# Altium footprint library WB_CONNECTOR.PcbLib: 32 footprints (part 2 of 3)
Each footprint in its own frame and in the unit in brackets; x right, y up, seen from the top. Pads: shape width x height; smd on the part's side, far side on the other; paste and mask are expansions set on the pad; w line width, h text height; cw(c..) or ccw(c..) is an arc to the next point about the centre after c.
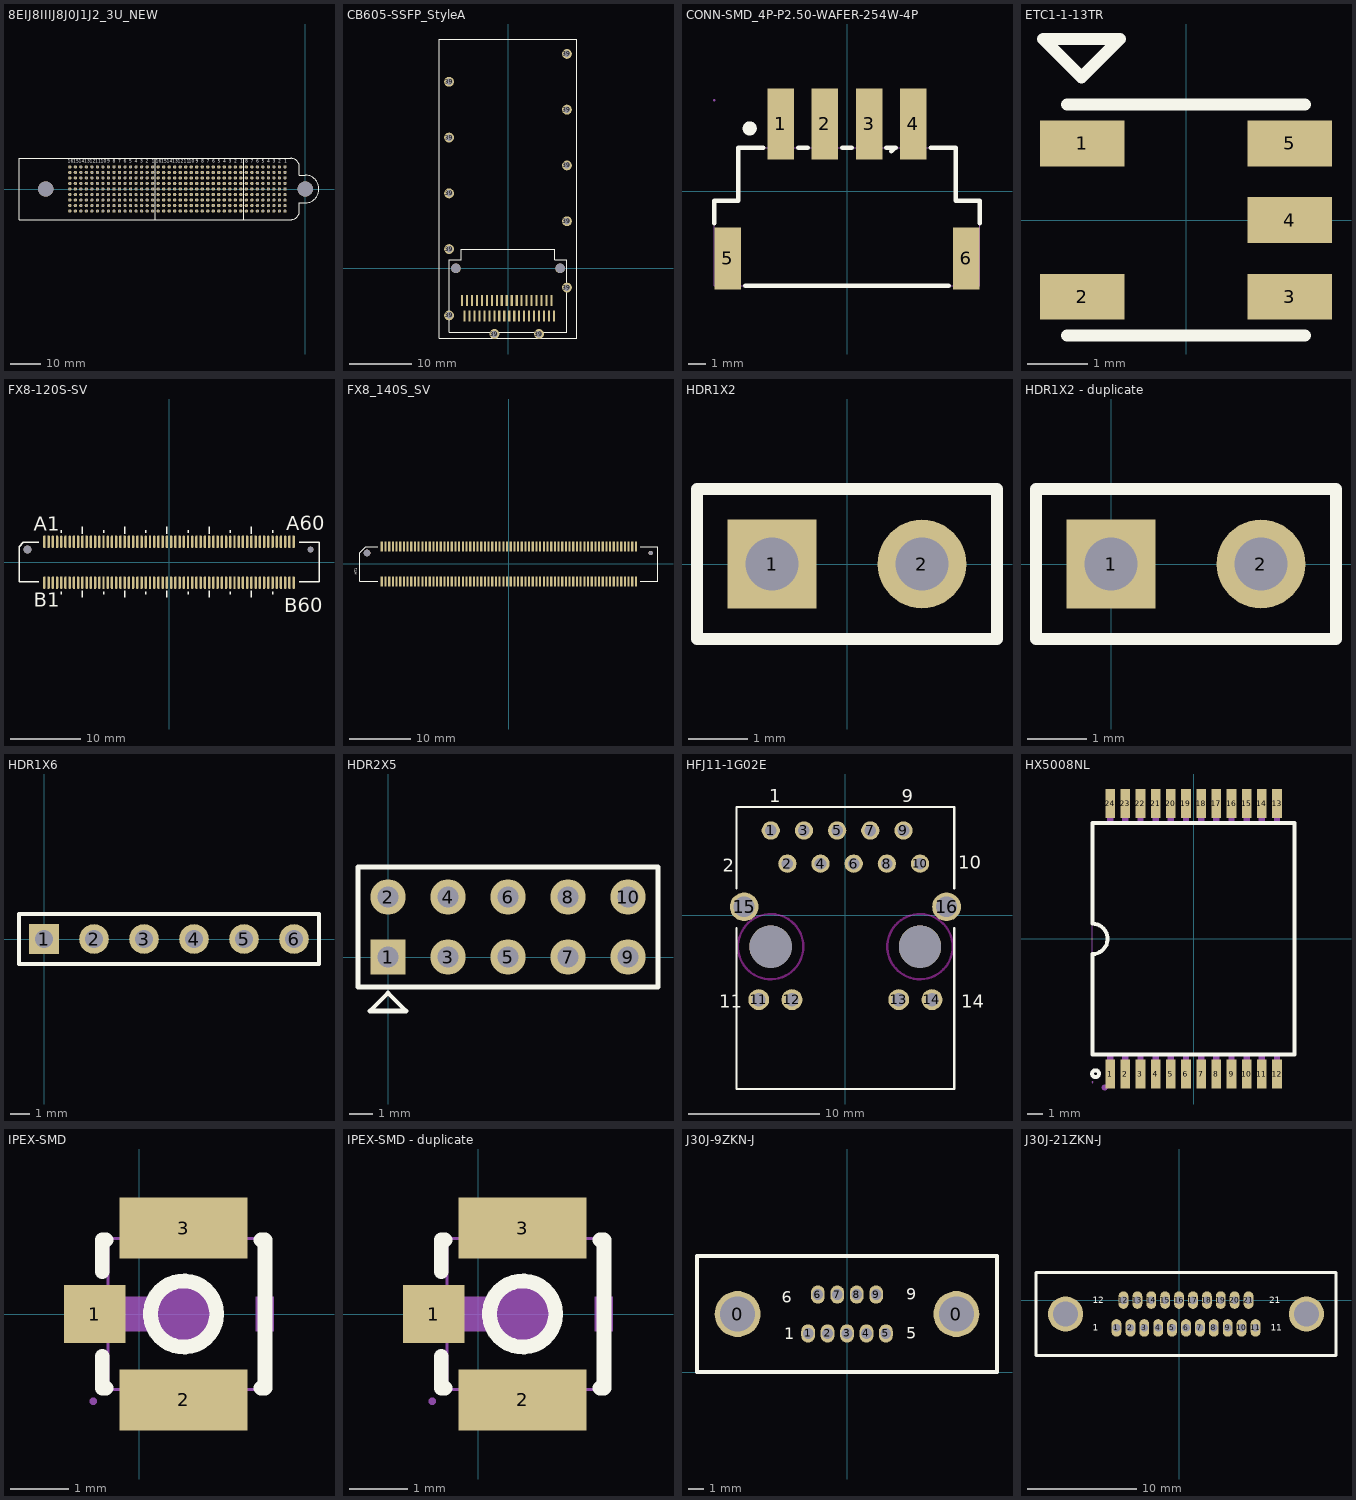
[diagram p1: the footprints below, top view; thin cyan lines are the x and y axes]

## 8EIJ8IIIJ8J0J1J2_3U_NEW [mm]
pads (362):
  round 1.1 hole 0.56: P0_A1(-6.6,7.2) P0_A2(-8.4,7.2) P0_A3(-10.2,7.2) P0_A4(-12,7.2) P0_A5(-13.8,7.2) P0_A6(-15.6,7.2) P0_A7(-17.4,7.2) P0_A8(-19.2,7.2) P0_B1(-6.6,5.4) P0_B2(-8.4,5.4) P0_B3(-10.2,5.4) P0_B4(-12,5.4) P0_B5(-13.8,5.4) P0_B6(-15.6,5.4) P0_B7(-17.4,5.4) P0_B8(-19.2,5.4) P0_C1(-6.6,3.6) P0_C2(-8.4,3.6) P0_C3(-10.2,3.6) P0_C4(-12,3.6) P0_C5(-13.8,3.6) P0_C6(-15.6,3.6) P0_C7(-17.4,3.6) P0_C8(-19.2,3.6) P0_D1(-6.6,1.8) P0_D2(-8.4,1.8) P0_D3(-10.2,1.8) P0_D4(-12,1.8) P0_D5(-13.8,1.8) P0_D6(-15.6,1.8) P0_D7(-17.4,1.8) P0_D8(-19.2,1.8) P0_E1(-6.6,0) P0_E2(-8.4,0) P0_E3(-10.2,0) P0_E4(-12,0) P0_E5(-13.8,0) P0_E6(-15.6,0) P0_E7(-17.4,0) P0_E8(-19.2,0) P0_F1(-6.6,-1.8) P0_F2(-8.4,-1.8) P0_F3(-10.2,-1.8) P0_F4(-12,-1.8) P0_F5(-13.8,-1.8) P0_F6(-15.6,-1.8) P0_F7(-17.4,-1.8) P0_F8(-19.2,-1.8) P0_G1(-6.6,-3.6) P0_G2(-8.4,-3.6) P0_G3(-10.2,-3.6) P0_G4(-12,-3.6) P0_G5(-13.8,-3.6) P0_G6(-15.6,-3.6) P0_G7(-17.4,-3.6) P0_G8(-19.2,-3.6) P0_H1(-6.6,-5.4) P0_H2(-8.4,-5.4) P0_H3(-10.2,-5.4) P0_H4(-12,-5.4) P0_H5(-13.8,-5.4) P0_H6(-15.6,-5.4) P0_H7(-17.4,-5.4) P0_H8(-19.2,-5.4) P0_I1(-6.6,-7.2) P0_I2(-8.4,-7.2) P0_I3(-10.2,-7.2) P0_I4(-12,-7.2) P0_I5(-13.8,-7.2) P0_I6(-15.6,-7.2) P0_I7(-17.4,-7.2) P0_I8(-19.2,-7.2) P1_A1(-21,7.2) P1_A2(-22.8,7.2) P1_A3(-24.6,7.2) P1_A4(-26.4,7.2) P1_A5(-28.2,7.2) P1_A6(-30,7.2) P1_A7(-31.8,7.2) P1_A8(-33.6,7.2) P1_A9(-35.4,7.2) P1_A10(-37.2,7.2) P1_A11(-39,7.2) P1_A12(-40.8,7.2) P1_A13(-42.6,7.2) P1_A14(-44.4,7.2) P1_A15(-46.2,7.2) P1_A16(-48,7.2) P1_B1(-21,5.4) P1_B2(-22.8,5.4) P1_B3(-24.6,5.4) P1_B4(-26.4,5.4) P1_B5(-28.2,5.4) P1_B6(-30,5.4) P1_B7(-31.8,5.4) P1_B8(-33.6,5.4) P1_B9(-35.4,5.4) P1_B10(-37.2,5.4) P1_B11(-39,5.4) P1_B12(-40.8,5.4) P1_B13(-42.6,5.4) P1_B14(-44.4,5.4) P1_B15(-46.2,5.4) P1_B16(-48,5.4) P1_C1(-21,3.6) P1_C2(-22.8,3.6) P1_C3(-24.6,3.6) P1_C4(-26.4,3.6) P1_C5(-28.2,3.6) P1_C6(-30,3.6) P1_C7(-31.8,3.6) P1_C8(-33.6,3.6) P1_C9(-35.4,3.6) P1_C10(-37.2,3.6) P1_C11(-39,3.6) P1_C12(-40.8,3.6) P1_C13(-42.6,3.6) P1_C14(-44.4,3.6) P1_C15(-46.2,3.6) P1_C16(-48,3.6) P1_D1(-21,1.8) P1_D2(-22.8,1.8) P1_D3(-24.6,1.8) P1_D4(-26.4,1.8) P1_D5(-28.2,1.8) P1_D6(-30,1.8) P1_D7(-31.8,1.8) P1_D8(-33.6,1.8) P1_D9(-35.4,1.8) P1_D10(-37.2,1.8) P1_D11(-39,1.8) P1_D12(-40.8,1.8) P1_D13(-42.6,1.8) P1_D14(-44.4,1.8) P1_D15(-46.2,1.8) P1_D16(-48,1.8) P1_E1(-21,0) P1_E2(-22.8,0) P1_E3(-24.6,0) P1_E4(-26.4,0) P1_E5(-28.2,0) P1_E6(-30,0) P1_E7(-31.8,0) P1_E8(-33.6,0) P1_E9(-35.4,0) P1_E10(-37.2,0) P1_E11(-39,0) P1_E12(-40.8,0) P1_E13(-42.6,0) P1_E14(-44.4,0) P1_E15(-46.2,0) P1_E16(-48,0) P1_F1(-21,-1.8) P1_F2(-22.8,-1.8) P1_F3(-24.6,-1.8) P1_F4(-26.4,-1.8) P1_F5(-28.2,-1.8) P1_F6(-30,-1.8) P1_F7(-31.8,-1.8) P1_F8(-33.6,-1.8) P1_F9(-35.4,-1.8) P1_F10(-37.2,-1.8) P1_F11(-39,-1.8) P1_F12(-40.8,-1.8) P1_F13(-42.6,-1.8) P1_F14(-44.4,-1.8) P1_F15(-46.2,-1.8) P1_F16(-48,-1.8) P1_G1(-21,-3.6) P1_G2(-22.8,-3.6) P1_G3(-24.6,-3.6) P1_G4(-26.4,-3.6) P1_G5(-28.2,-3.6) P1_G6(-30,-3.6) P1_G7(-31.8,-3.6) P1_G8(-33.6,-3.6) P1_G9(-35.4,-3.6) P1_G10(-37.2,-3.6) P1_G11(-39,-3.6) P1_G12(-40.8,-3.6) P1_G13(-42.6,-3.6) P1_G14(-44.4,-3.6) P1_G15(-46.2,-3.6) P1_G16(-48,-3.6) P1_H1(-21,-5.4) P1_H2(-22.8,-5.4) P1_H3(-24.6,-5.4) P1_H4(-26.4,-5.4) P1_H5(-28.2,-5.4) P1_H6(-30,-5.4) P1_H7(-31.8,-5.4) P1_H8(-33.6,-5.4) P1_H9(-35.4,-5.4) P1_H10(-37.2,-5.4) P1_H11(-39,-5.4) P1_H12(-40.8,-5.4) P1_H13(-42.6,-5.4) P1_H14(-44.4,-5.4) P1_H15(-46.2,-5.4) P1_H16(-48,-5.4) P1_I1(-21,-7.2) P1_I2(-22.8,-7.2) P1_I3(-24.6,-7.2) P1_I4(-26.4,-7.2) P1_I5(-28.2,-7.2) P1_I6(-30,-7.2) P1_I7(-31.8,-7.2) P1_I8(-33.6,-7.2) P1_I9(-35.4,-7.2) P1_I10(-37.2,-7.2) P1_I11(-39,-7.2) P1_I12(-40.8,-7.2) P1_I13(-42.6,-7.2) P1_I14(-44.4,-7.2) P1_I15(-46.2,-7.2) P1_I16(-48,-7.2) P2_A1(-49.8,7.2) P2_A2(-51.6,7.2) P2_A3(-53.4,7.2) P2_A4(-55.2,7.2) P2_A5(-57,7.2) P2_A6(-58.8,7.2) P2_A7(-60.6,7.2) P2_A8(-62.4,7.2) P2_A9(-64.2,7.2) P2_A10(-66,7.2) P2_A11(-67.8,7.2) P2_A12(-69.6,7.2) P2_A13(-71.4,7.2) P2_A14(-73.2,7.2) P2_A15(-75,7.2) P2_A16(-76.8,7.2) P2_B1(-49.8,5.4) P2_B2(-51.6,5.4) P2_B3(-53.4,5.4) P2_B4(-55.2,5.4) P2_B5(-57,5.4) P2_B6(-58.8,5.4) P2_B7(-60.6,5.4) P2_B8(-62.4,5.4) P2_B9(-64.2,5.4) P2_B10(-66,5.4) P2_B11(-67.8,5.4) P2_B12(-69.6,5.4) P2_B13(-71.4,5.4) P2_B14(-73.2,5.4) P2_B15(-75,5.4) P2_B16(-76.8,5.4) P2_C1(-49.8,3.6) P2_C2(-51.6,3.6) P2_C3(-53.4,3.6) P2_C4(-55.2,3.6) P2_C5(-57,3.6) P2_C6(-58.8,3.6) P2_C7(-60.6,3.6) P2_C8(-62.4,3.6) P2_C9(-64.2,3.6) P2_C10(-66,3.6) P2_C11(-67.8,3.6) P2_C12(-69.6,3.6) P2_C13(-71.4,3.6) P2_C14(-73.2,3.6) P2_C15(-75,3.6) P2_C16(-76.8,3.6) P2_D1(-49.8,1.8) P2_D2(-51.6,1.8) P2_D3(-53.4,1.8) P2_D4(-55.2,1.8) P2_D5(-57,1.8) P2_D6(-58.8,1.8) P2_D7(-60.6,1.8) P2_D8(-62.4,1.8) P2_D9(-64.2,1.8) P2_D10(-66,1.8) P2_D11(-67.8,1.8) P2_D12(-69.6,1.8) P2_D13(-71.4,1.8) P2_D14(-73.2,1.8) P2_D15(-75,1.8) P2_D16(-76.8,1.8) P2_E1(-49.8,0) P2_E2(-51.6,0) P2_E3(-53.4,0) P2_E4(-55.2,0) P2_E5(-57,0) P2_E6(-58.8,0) P2_E7(-60.6,0) P2_E8(-62.4,0) P2_E9(-64.2,0) P2_E10(-66,0) P2_E11(-67.8,0) P2_E12(-69.6,0) P2_E13(-71.4,0) P2_E14(-73.2,0) P2_E15(-75,0) P2_E16(-76.8,0) P2_F1(-49.8,-1.8) P2_F2(-51.6,-1.8) P2_F3(-53.4,-1.8) P2_F4(-55.2,-1.8) P2_F5(-57,-1.8) P2_F6(-58.8,-1.8) P2_F7(-60.6,-1.8) P2_F8(-62.4,-1.8) P2_F9(-64.2,-1.8) P2_F10(-66,-1.8) P2_F11(-67.8,-1.8) P2_F12(-69.6,-1.8) P2_F13(-71.4,-1.8) P2_F14(-73.2,-1.8) P2_F15(-75,-1.8) P2_F16(-76.8,-1.8) P2_G1(-49.8,-3.6) P2_G2(-51.6,-3.6) P2_G3(-53.4,-3.6) P2_G4(-55.2,-3.6) P2_G5(-57,-3.6) P2_G6(-58.8,-3.6) P2_G7(-60.6,-3.6) P2_G8(-62.4,-3.6) P2_G9(-64.2,-3.6) P2_G10(-66,-3.6) P2_G11(-67.8,-3.6) P2_G12(-69.6,-3.6) P2_G13(-71.4,-3.6) P2_G14(-73.2,-3.6) P2_G15(-75,-3.6) P2_G16(-76.8,-3.6) P2_H1(-49.8,-5.4) P2_H2(-51.6,-5.4) P2_H3(-53.4,-5.4) P2_H4(-55.2,-5.4) P2_H5(-57,-5.4) P2_H6(-58.8,-5.4) P2_H7(-60.6,-5.4) P2_H8(-62.4,-5.4) P2_H9(-64.2,-5.4) P2_H10(-66,-5.4) P2_H11(-67.8,-5.4) P2_H12(-69.6,-5.4) P2_H13(-71.4,-5.4) P2_H14(-73.2,-5.4) P2_H15(-75,-5.4) P2_H16(-76.8,-5.4) P2_I1(-49.8,-7.2) P2_I2(-51.6,-7.2) P2_I3(-53.4,-7.2) P2_I4(-55.2,-7.2) P2_I5(-57,-7.2) P2_I6(-58.8,-7.2) P2_I7(-60.6,-7.2) P2_I8(-62.4,-7.2) P2_I9(-64.2,-7.2) P2_I10(-66,-7.2) P2_I11(-67.8,-7.2) P2_I12(-69.6,-7.2) P2_I13(-71.4,-7.2) P2_I14(-73.2,-7.2) P2_I15(-75,-7.2) P2_I16(-76.8,-7.2)
  round 5 hole 5: ""(-84.7,0) ""(0,0)
Top Overlay:
  lines w0.127: -48.895,-10 -48.895,10 ; -20.066,-10 -20.066,10 ; -93.4,-10 -4.7,-10 ccw(c-4.7,-7.2) -1.9,-7.2 -1.9,-4.5 0,-4.5 ccw(c0,0) 0,4.5 -1.9,4.5 -1.9,7.2 ccw(c-4.7,7.2) -4.7,10 -93.4,10 -93.4,9.982 -93.4,0 -93.4,-9.982 -93.4,-10
  text "1" at -50.01,8 h1.78
  text "2" at -51.979,8 h1.78
  text "3" at -53.772,8 h1.78
  text "4" at -55.595,8 h1.78
  text "5" at -57.377,8 h1.78
  text "6" at -59.176,8 h1.78
  text "7" at -60.969,8 h1.78
  text "8" at -62.776,8 h1.78
  text "9" at -64.575,8 h1.78
  text "10" at -66.76,8 h1.78
  text "11" at -68.452,8 h1.78
  text "12" at -70.356,8 h1.78
  text "13" at -72.162,8 h1.78
  text "14" at -73.96,8 h1.78
  text "15" at -75.766,8 h1.78
  text "16" at -77.562,8 h1.78
  text "16" at -48.762,8 h1.78
  text "15" at -46.966,8 h1.78
  text "14" at -45.16,8 h1.78
  text "13" at -43.362,8 h1.78
  text "12" at -41.556,8 h1.78
  text "11" at -39.652,8 h1.78
  text "10" at -37.96,8 h1.78
  text "9" at -35.775,8 h1.78
  text "8" at -33.976,8 h1.78
  text "7" at -32.169,8 h1.78
  text "6" at -30.376,8 h1.78
  text "5" at -28.577,8 h1.78
  text "4" at -26.795,8 h1.78
  text "3" at -24.972,8 h1.78
  text "2" at -23.179,8 h1.78
  text "1" at -21.21,8 h1.78
  text "8" at -19.576,8 h1.78
  text "7" at -17.769,8 h1.78
  text "6" at -15.976,8 h1.78
  text "5" at -14.177,8 h1.78
  text "4" at -12.395,8 h1.78
  text "3" at -10.572,8 h1.78
  text "2" at -8.779,8 h1.78
  text "1" at -6.81,8 h1.78
Bottom Overlay:
  lines w0.127: -93.4,9.982 -93.4,0 -93.4,-9.982 -93.4,-10 -4.7,-10 ccw(c-4.7,-7.2) -1.9,-7.2 -1.9,-4.5 0,-4.5 ccw(c0,0) 0,4.5 -1.9,4.5 -1.9,7.2 ccw(c-4.7,7.2) -4.7,10 -93.4,10 ; -48.895,-10 -48.895,10 ; -20.066,-10 -20.066,10
  text "15" at -45.434,8.001 h1.78
  text "16" at -47.238,8.001 h1.78
  text "14" at -43.64,8.001 h1.78
  text "13" at -41.838,8.001 h1.78
  text "12" at -40.044,8.001 h1.78
  text "11" at -38.348,8.001 h1.78
  text "10" at -36.44,8.001 h1.78
  text "3" at -24.228,8.001 h1.78
  text "4" at -26.005,8.001 h1.78
  text "5" at -27.823,8.001 h1.78
  text "6" at -29.624,8.001 h1.78
  text "7" at -31.431,8.001 h1.78
  text "9" at -35.025,8.001 h1.78
  text "8" at -33.224,8.001 h1.78
  text "1" at -20.79,8.001 h1.78
  text "2" at -22.421,8.001 h1.78
  text "2" at -8.021,8.001 h1.78
  text "1" at -6.39,8.001 h1.78
  text "8" at -18.824,8.001 h1.78
  text "7" at -17.031,8.001 h1.78
  text "6" at -15.224,8.001 h1.78
  text "5" at -13.423,8.001 h1.78
  text "4" at -11.605,8.001 h1.78
  text "3" at -9.828,8.001 h1.78
  text "2" at -51.221,8.001 h1.78
  text "1" at -49.59,8.001 h1.78
  text "8" at -62.024,8.001 h1.78
  text "9" at -63.825,8.001 h1.78
  text "7" at -60.231,8.001 h1.78
  text "6" at -58.424,8.001 h1.78
  text "5" at -56.623,8.001 h1.78
  text "4" at -54.805,8.001 h1.78
  text "3" at -53.028,8.001 h1.78
  text "10" at -65.24,8.001 h1.78
  text "11" at -67.148,8.001 h1.78
  text "12" at -68.844,8.001 h1.78
  text "13" at -70.638,8.001 h1.78
  text "14" at -72.44,8.001 h1.78
  text "16" at -76.038,8.001 h1.78
  text "15" at -74.234,8.001 h1.78

## CB605-SSFP_StyleA [mm]
pads (52):
  rect 0.35x1.8 smd: 1(7,-5.18) 2(6.2,-5.18) 3(5.4,-5.18) 4(4.6,-5.18) 5(3.8,-5.18) 6(3,-5.18) 7(2.2,-5.18) 8(1.4,-5.18) 9(0.6,-5.18) 10(-0.2,-5.18) 11(-1,-5.18) 12(-1.8,-5.18) 13(-2.6,-5.18) 14(-3.4,-5.18) 15(-4.2,-5.18) 16(-5,-5.18) 17(-5.8,-5.18) 18(-6.6,-5.18) 19(-7.4,-5.18) 20(-7,-7.69) 21(-6.2,-7.69) 22(-5.4,-7.69) 23(-4.6,-7.69) 24(-3.8,-7.69) 25(-3,-7.69) 26(-2.2,-7.69) 27(-1.4,-7.69) 28(-0.6,-7.69) 29(0.2,-7.69) 30(1,-7.69) 31(1.8,-7.69) 32(2.6,-7.69) 33(3.4,-7.69) 34(4.2,-7.69) 35(5,-7.69) 36(5.8,-7.69) 37(6.6,-7.69) 38(7.4,-7.69)
  round 1.6 hole 1.05: 39(-9.5,-7.6) 39(-9.5,3.1) 39(-9.5,12.1) 39(-9.5,21.1) 39(-9.5,30.1) 39(-2.2,-10.6) 39(5,-10.6) 39(9.5,-3.1) 39(9.5,7.6) 39(9.5,16.6) 39(9.5,25.6) 39(9.5,34.6)
  round 1.55 hole 1.55: ""(-8.4,0) ""(8.4,0)
Top Overlay:
  lines w0.1: -11.075,-11.3 -11.075,37 11.075,37 11.075,-11.3 -11.075,-11.3 ; -9.5,-10.3 -9.5,1.36 -7.51,1.36 -7.51,3.05 7.51,3.05 7.51,1.36 9.5,1.36 9.5,-10.3 -9.5,-10.3

## CONN-SMD_4P-P2.50-WAFER-254W-4P [mm]
pads (6):
  rect 1.5x4 smd paste+0 mask+0.05: 1(-3.75,3.8) 2(-1.25,3.8) 3(1.25,3.8) 4(3.75,3.8)
  rect 1.5x3.5 smd paste+0 mask+0.05: 5(-6.73,-3.8) 6(6.73,-3.8)
Top Overlay:
  circle w0.4: c-5.5,3.55 r0.2
  lines w0.254: -7.5,-1.82 -7.5,-0.55 -7.35,-0.55 -6.15,-0.55 -6.15,2.45 -4.731,2.45 ; -5.749,-5.35 5.749,-5.35 ; -2.769,2.45 -2.231,2.45 ; -0.269,2.45 0.269,2.45 ; 2.231,2.45 2.769,2.45 2.7,2.45 2.5,2.25 ; 4.731,2.45 6.15,2.45 6.15,2.3 6.15,-0.55 7.5,-0.55 7.5,-1.82
Mechanical 6:
  circle w0.4: c-3.7,3.2 r0.2
Mechanical 15:
  region: -6.8,-2.45 -6.5,-2.45 -6.5,-5.15 -6.8,-5.15
  region: 6.5,-2.45 6.8,-2.45 6.8,-5.15 6.5,-5.15
  region: 3.43,5.15 4.07,5.15 4.07,2.15 3.43,2.15
  region: 0.93,5.15 1.57,5.15 1.57,2.15 0.93,2.15
  region: -1.57,5.15 -0.93,5.15 -0.93,2.15 -1.57,2.15
  region: -4.07,5.15 -3.43,5.15 -3.43,2.15 -4.07,2.15
  region: -7.44,5.15 -7.44,5.125 -7.475,5.09 -7.525,5.09 -7.56,5.125 -7.56,5.15 -7.56,5.175 -7.525,5.21 -7.475,5.21 -7.44,5.175 -7.44,5.15
  lines w0.051: -7.5,-5.35 -7.5,-0.55 -6.15,-0.55 -6.15,2.45 6.15,2.45 6.15,-0.55 7.5,-0.55 7.5,-5.35 3.05,-5.35 -7.5,-5.35

## ETC1-1-13TR [mm]
pads (5):
  rect 1.4x0.76 smd: 1(-1.715,1.27) 2(-1.715,-1.27) 3(1.715,-1.27) 4(1.715,0) 5(1.715,1.27)
Top Overlay:
  lines w0.2: -1.97,-1.915 1.97,-1.915 ; -1.97,1.915 1.97,1.915 ; -2.365,3 -1.095,3 -1.73,2.365 -2.365,3

## FX8-120S-SV [mm]
pads (122):
  oval 0.35x1.8 smd mask+0.102: A1(-17.7,2.9) A2(-17.1,2.9) A3(-16.5,2.9) A4(-15.9,2.9) A5(-15.3,2.9) A6(-14.7,2.9) A7(-14.1,2.9) A8(-13.5,2.9) A9(-12.9,2.9) A10(-12.3,2.9) A11(-11.7,2.9) A12(-11.1,2.9) A13(-10.5,2.9) A14(-9.9,2.9) A15(-9.3,2.9) A16(-8.7,2.9) A17(-8.1,2.9) A18(-7.5,2.9) A19(-6.9,2.9) A20(-6.3,2.9) A21(-5.7,2.9) A22(-5.1,2.9) A23(-4.5,2.9) A24(-3.9,2.9) A25(-3.3,2.9) A26(-2.7,2.9) A27(-2.1,2.9) A28(-1.5,2.9) A29(-0.9,2.9) A30(-0.3,2.9) A31(0.3,2.9) A32(0.9,2.9) A33(1.5,2.9) A34(2.1,2.9) A35(2.7,2.9) A36(3.3,2.9) A37(3.9,2.9) A38(4.5,2.9) A39(5.1,2.9) A40(5.7,2.9) A41(6.3,2.9) A42(6.9,2.9) A43(7.5,2.9) A44(8.1,2.9) A45(8.7,2.9) A46(9.3,2.9) A47(9.9,2.9) A48(10.5,2.9) A49(11.1,2.9) A50(11.7,2.9) A51(12.3,2.9) A52(12.9,2.9) A53(13.5,2.9) A54(14.1,2.9) A55(14.7,2.9) A56(15.3,2.9) A57(15.9,2.9) A58(16.5,2.9) A59(17.1,2.9) A60(17.7,2.9) B1(-17.7,-2.9) B2(-17.1,-2.9) B3(-16.5,-2.9) B4(-15.9,-2.9) B5(-15.3,-2.9) B6(-14.7,-2.9) B7(-14.1,-2.9) B8(-13.5,-2.9) B9(-12.9,-2.9) B10(-12.3,-2.9) B11(-11.7,-2.9) B12(-11.1,-2.9) B13(-10.5,-2.9) B14(-9.9,-2.9) B15(-9.3,-2.9) B16(-8.7,-2.9) B17(-8.1,-2.9) B18(-7.5,-2.9) B19(-6.9,-2.9) B20(-6.3,-2.9) B21(-5.7,-2.9) B22(-5.1,-2.9) B23(-4.5,-2.9) B24(-3.9,-2.9) B25(-3.3,-2.9) B26(-2.7,-2.9) B27(-2.1,-2.9) B28(-1.5,-2.9) B29(-0.9,-2.9) B30(-0.3,-2.9) B31(0.3,-2.9) B32(0.9,-2.9) B33(1.5,-2.9) B34(2.1,-2.9) B35(2.7,-2.9) B36(3.3,-2.9) B37(3.9,-2.9) B38(4.5,-2.9) B39(5.1,-2.9) B40(5.7,-2.9) B41(6.3,-2.9) B42(6.9,-2.9) B43(7.5,-2.9) B44(8.1,-2.9) B45(8.7,-2.9) B46(9.3,-2.9) B47(9.9,-2.9) B48(10.5,-2.9) B49(11.1,-2.9) B50(11.7,-2.9) B51(12.3,-2.9) B52(12.9,-2.9) B53(13.5,-2.9) B54(14.1,-2.9) B55(14.7,-2.9) B56(15.3,-2.9) B57(15.9,-2.9) B58(16.5,-2.9) B59(17.1,-2.9) B60(17.7,-2.9)
  round 1.1 hole 1.1 unplated mask+0.102: ""(-20.1,1.8)
  round 0.8 hole 0.8 unplated mask+0.102: ""(20.1,1.8)
Top Overlay:
  lines w0.178: -18.5,-2.8 -21.3,-2.8 -21.3,2.195 -20.695,2.8 -18.5,2.8 ; -15.291,-4.547 -15.291,-4.166 ; -15.291,4.166 -15.291,4.547 ; -12.319,-5.004 -12.319,-4.064 ; -12.319,4.064 -12.319,5.004 ; -9.291,-4.547 -9.291,-4.166 ; -9.291,4.166 -9.291,4.547 ; -6.319,-5.004 -6.319,-4.064 ; -6.319,4.064 -6.319,5.004 ; -3.291,-4.547 -3.291,-4.166 ; -3.291,4.166 -3.291,4.547 ; -0.319,-5.004 -0.319,-4.064 ; -0.319,4.064 -0.319,5.004 ; 2.709,-4.547 2.709,-4.166 ; 2.709,4.166 2.709,4.547 ; 5.681,-5.004 5.681,-4.064 ; 5.681,4.064 5.681,5.004 ; 8.709,-4.547 8.709,-4.166 ; 8.709,4.166 8.709,4.547 ; 11.681,-5.004 11.681,-4.064 ; 11.681,4.064 11.681,5.004 ; 14.709,-4.547 14.709,-4.166 ; 14.709,4.166 14.709,4.547 ; 18.5,-2.8 21.3,-2.8 21.3,2.8 18.5,2.8
  text "A1" at -19.177,4.445 h2.03
  text "B1" at -19.177,-6.35 h2.03
  text "A60" at 16.637,4.572 h2.03
  text "B60" at 16.383,-7.112 h2.03

## FX8_140S_SV [mm]
pads (142):
  rect 0.35x1.7 smd mask+0.102: A1_1(-20.7,2.85) A1_2(-20.1,2.85) A1_3(-19.5,2.85) A1_4(-18.9,2.85) A1_5(-18.3,2.85) A1_6(-17.7,2.85) A1_7(-17.1,2.85) A1_8(-16.5,2.85) A1_9(-15.9,2.85) A1_10(-15.3,2.85) A1_11(-14.7,2.85) A1_12(-14.1,2.85) A1_13(-13.5,2.85) A1_14(-12.9,2.85) A1_15(-12.3,2.85) A1_16(-11.7,2.85) A1_17(-11.1,2.85) A1_18(-10.5,2.85) A1_19(-9.9,2.85) A1_20(-9.3,2.85) A1_21(-8.7,2.85) A1_22(-8.1,2.85) A1_23(-7.5,2.85) A1_24(-6.9,2.85) A1_25(-6.3,2.85) A1_26(-5.7,2.85) A1_27(-5.1,2.85) A1_28(-4.5,2.85) A1_29(-3.9,2.85) A1_30(-3.3,2.85) A1_31(-2.7,2.85) A1_32(-2.1,2.85) A1_33(-1.5,2.85) A1_34(-0.9,2.85) A1_35(-0.3,2.85) A1_36(0.3,2.85) A1_37(0.9,2.85) A1_38(1.5,2.85) A1_39(2.1,2.85) A1_40(2.7,2.85) A1_41(3.3,2.85) A1_42(3.9,2.85) A1_43(4.5,2.85) A1_44(5.1,2.85) A1_45(5.7,2.85) A1_46(6.3,2.85) A1_47(6.9,2.85) A1_48(7.5,2.85) A1_49(8.1,2.85) A1_50(8.7,2.85) A1_51(9.3,2.85) A1_52(9.9,2.85) A1_53(10.5,2.85) A1_54(11.1,2.85) A1_55(11.7,2.85) A1_56(12.3,2.85) A1_57(12.9,2.85) A1_58(13.5,2.85) A1_59(14.1,2.85) A1_60(14.7,2.85) A1_61(15.3,2.85) A1_62(15.9,2.85) A1_63(16.5,2.85) A1_64(17.1,2.85) A1_65(17.7,2.85) A1_66(18.3,2.85) A1_67(18.9,2.85) A1_68(19.5,2.85) A1_69(20.1,2.85) A1_70(20.7,2.85) B1_1(-20.7,-2.85) B1_2(-20.1,-2.85) B1_3(-19.5,-2.85) B1_4(-18.9,-2.85) B1_5(-18.3,-2.85) B1_6(-17.7,-2.85) B1_7(-17.1,-2.85) B1_8(-16.5,-2.85) B1_9(-15.9,-2.85) B1_10(-15.3,-2.85) B1_11(-14.7,-2.85) B1_12(-14.1,-2.85) B1_13(-13.5,-2.85) B1_14(-12.9,-2.85) B1_15(-12.3,-2.85) B1_16(-11.7,-2.85) B1_17(-11.1,-2.85) B1_18(-10.5,-2.85) B1_19(-9.9,-2.85) B1_20(-9.3,-2.85) B1_21(-8.7,-2.85) B1_22(-8.1,-2.85) B1_23(-7.5,-2.85) B1_24(-6.9,-2.85) B1_25(-6.3,-2.85) B1_26(-5.7,-2.85) B1_27(-5.1,-2.85) B1_28(-4.5,-2.85) B1_29(-3.9,-2.85) B1_30(-3.3,-2.85) B1_31(-2.7,-2.85) B1_32(-2.1,-2.85) B1_33(-1.5,-2.85) B1_34(-0.9,-2.85) B1_35(-0.3,-2.85) B1_36(0.3,-2.85) B1_37(0.9,-2.85) B1_38(1.5,-2.85) B1_39(2.1,-2.85) B1_40(2.7,-2.85) B1_41(3.3,-2.85) B1_42(3.9,-2.85) B1_43(4.5,-2.85) B1_44(5.1,-2.85) B1_45(5.7,-2.85) B1_46(6.3,-2.85) B1_47(6.9,-2.85) B1_48(7.5,-2.85) B1_49(8.1,-2.85) B1_50(8.7,-2.85) B1_51(9.3,-2.85) B1_52(9.9,-2.85) B1_53(10.5,-2.85) B1_54(11.1,-2.85) B1_55(11.7,-2.85) B1_56(12.3,-2.85) B1_57(12.9,-2.85) B1_58(13.5,-2.85) B1_59(14.1,-2.85) B1_60(14.7,-2.85) B1_61(15.3,-2.85) B1_62(15.9,-2.85) B1_63(16.5,-2.85) B1_64(17.1,-2.85) B1_65(17.7,-2.85) B1_66(18.3,-2.85) B1_67(18.9,-2.85) B1_68(19.5,-2.85) B1_69(20.1,-2.85) B1_70(20.7,-2.85)
  round 1.1 hole 1.1 unplated: ""(-23.1,1.8)
  round 0.7 hole 0.7 unplated: ""(23.1,1.8)
Top Overlay:
  lines w0.178: -21.4,-2.8 -24.3,-2.8 -24.3,1.8 -23.3,2.8 -21.4,2.8 ; 21.4,-2.8 24.3,-2.8 24.3,2.8 21.4,2.8
  text "HT1" at -24.581,-1.79 h0.76

## HDR1X2 [mm] "Connector; Header; 6 Position"
pads (2):
  rect 1.5x1.5 hole 0.9: 1(-1.27,0)
  round 1.5 hole 0.9: 2(1.27,0)
Top Overlay:
  lines w0.2: -2.54,-1.27 2.54,-1.27 2.54,1.27 -2.54,1.27 -2.54,-1.27

## HDR1X2 - duplicate [mm] "Connector; Header; 6 Position"
pads (2):
  rect 1.5x1.5 hole 0.9: 1(0,0)
  round 1.5 hole 0.9: 2(2.54,0)
Top Overlay:
  lines w0.2: -1.27,-1.27 3.81,-1.27 3.81,1.27 -1.27,1.27 -1.27,-1.27

## HDR1X6 [mm] "Connector; Header; 6 Position"
pads (6):
  rect 1.5x1.5 hole 0.9: 1(0,0)
  round 1.5 hole 0.9: 2(2.54,0) 3(5.08,0) 4(7.62,0) 5(10.16,0) 6(12.7,0)
Top Overlay:
  lines w0.2: -1.27,-1.27 13.97,-1.27 13.97,1.27 -1.27,1.27 -1.27,-1.27

## HDR2X5 [mm]
pads (10):
  rect 1.5x1.5 hole 0.9: 1(0,0)
  round 1.5 hole 0.9: 2(0,2.54) 3(2.54,0) 4(2.54,2.54) 5(5.08,0) 6(5.08,2.54) 7(7.62,0) 8(7.62,2.54) 9(10.16,0) 10(10.16,2.54)
Top Overlay:
  lines w0.2: -1.27,-1.27 11.43,-1.27 11.43,3.81 -1.27,3.81 -1.27,-1.27 ; -0.762,-2.286 0.762,-2.286 0,-1.524 -0.762,-2.286

## HFJ11-1G02E [mm]
pads (18):
  round 1.4 hole 0.89: 1(-5.71,6.475) 2(-4.44,3.935) 3(-3.17,6.475) 4(-1.9,3.935) 5(-0.63,6.475) 6(0.64,3.935) 7(1.91,6.475) 8(3.18,3.935) 9(4.45,6.475) 10(5.72,3.935)
  round 1.6 hole 1.02: 11(-6.63,-6.475) 12(-4.09,-6.475) 13(4.09,-6.475) 14(6.63,-6.475)
  round 2.2 hole 1.6: 15(-7.745,0.635) 16(7.745,0.635)
  round 3.25 hole 3.25 unplated: ""(-5.715,-2.415) ""(5.715,-2.415)
Top Overlay:
  lines w0.178: -8.33,-1.016 -8.33,-13.315 8.33,-13.315 8.33,-1.016 ; -8.33,2.032 -8.33,8.275 8.33,8.275 8.33,2.032
  text "11" at -9.652,-7.112 h1.02
  text "14" at 8.89,-7.112 h1.02
  text "2" at -9.398,3.302 h1.02
  text "10" at 8.636,3.556 h1.02
  text "9" at 4.318,8.636 h1.02
  text "1" at -5.842,8.636 h1.02
Keep-Out Layer:
  circle w0.178: c5.715,-2.415 r2.5
  circle w0.178: c-5.715,-2.415 r2.5

## HX5008NL [mm]
pads (24):
  rect 0.64x1.905 smd: 1(-5.445,-8.827) 2(-4.455,-8.827) 3(-3.465,-8.827) 4(-2.475,-8.827) 5(-1.485,-8.827) 6(-0.495,-8.827) 7(0.495,-8.827) 8(1.485,-8.827) 9(2.475,-8.827) 10(3.465,-8.827) 11(4.455,-8.827) 12(5.445,-8.827) 13(5.445,8.828) 14(4.455,8.828) 15(3.465,8.828) 16(2.475,8.828) 17(1.485,8.828) 18(0.495,8.828) 19(-0.495,8.828) 20(-1.485,8.828) 21(-2.475,8.828) 22(-3.465,8.828) 23(-4.455,8.828) 24(-5.445,8.828)
Top Overlay:
  circle w0.254: c-6.4,-8.8 r0.224
  lines w0.254: -6.6,0.99 -6.6,7.55 6.6,7.55 ; -6.599,0.99 cw(c-6.599,0) -6.6,-0.99 -6.6,-7.55 6.6,-7.55 ; 6.599,-7.55 6.599,-7.252 6.599,7.551
Mechanical 6:
  circle w0.2: c-5.8,-9.7 r0.1
Mechanical 15:
  drawing of 53 lines, arcs and shapes, not listed

## IPEX-SMD [mm]
pads (3):
  rect 1.05x1 smd: 1(-0.763,0)
  rect 2.2x1.05 smd: 2(0.763,-1.475) 3(0.763,1.475)
Top Overlay:
  circle w0.254: c0.763,0 r0.568
  lines w0.254: -0.635,-0.731 -0.635,-1.27 -0.569,-1.27 ; -0.635,0.731 -0.635,1.27 -0.569,1.27 ; 2.094,-1.27 2.16,-1.27 2.16,-0.731 2.16,0.731 2.16,1.27 2.094,1.27
Mechanical 6:
  circle w0.2: c-1.015,0 r0.1
  region: 1.293,0 1.293,-0.101 1.216,-0.288 1.073,-0.431 0.886,-0.508 0.785,-0.508 0.727,-0.507 0.613,-0.478 0.509,-0.424 0.42,-0.347 0.385,-0.3 -0.45,-0.3 -0.45,0.3 0.385,0.3 0.42,0.347 0.509,0.424 0.613,0.478 0.727,0.507 0.785,0.508 0.886,0.508 1.073,0.431 1.216,0.288 1.293,0.101 1.293,0
Mechanical 15:
  region: -0.727,-1.5 -0.728,-1.475 -0.763,-1.44 -0.812,-1.44 -0.848,-1.475 -0.848,-1.5 -0.848,-1.525 -0.812,-1.56 -0.763,-1.56 -0.727,-1.525 -0.727,-1.5
  region: 1.663,1.1 -0.137,1.1 -0.137,1.5 1.663,1.5
  region: 1.663,-1.5 -0.137,-1.5 -0.137,-1.1 1.663,-1.1
  region: 2,0.3 2.312,0.3 2.312,-0.3 2,-0.3
  region: 1.293,0 1.293,-0.101 1.216,-0.288 1.073,-0.431 0.886,-0.508 0.785,-0.508 0.727,-0.507 0.613,-0.478 0.509,-0.424 0.42,-0.347 0.385,-0.3 -0.45,-0.3 -0.45,0.3 0.385,0.3 0.42,0.347 0.509,0.424 0.613,0.478 0.727,0.507 0.785,0.508 0.886,0.508 1.073,0.431 1.216,0.288 1.293,0.101 1.293,0
  region: -0.437,0.3 -0.437,-0.3 -0.787,-0.3 -0.787,0.3
  lines w0.051: -0.537,-1.3 2.063,-1.3 2.063,1.3 -0.537,1.3 -0.537,-1.3

## IPEX-SMD - duplicate [mm]
pads (3):
  rect 1.05x1 smd: 1(-0.763,0)
  rect 2.2x1.05 smd: 2(0.763,-1.475) 3(0.763,1.475)
Top Overlay:
  circle w0.254: c0.763,0 r0.568
  lines w0.254: -0.635,-0.731 -0.635,-1.27 -0.569,-1.27 ; -0.635,0.731 -0.635,1.27 -0.569,1.27 ; 2.094,-1.27 2.16,-1.27 2.16,-0.731 2.16,0.731 2.16,1.27 2.094,1.27
Mechanical 6:
  circle w0.2: c-1.015,0 r0.1
  region: 1.293,0 1.293,-0.101 1.216,-0.288 1.073,-0.431 0.886,-0.508 0.785,-0.508 0.727,-0.507 0.613,-0.478 0.509,-0.424 0.42,-0.347 0.385,-0.3 -0.45,-0.3 -0.45,0.3 0.385,0.3 0.42,0.347 0.509,0.424 0.613,0.478 0.727,0.507 0.785,0.508 0.886,0.508 1.073,0.431 1.216,0.288 1.293,0.101 1.293,0
Mechanical 15:
  region: -0.727,-1.5 -0.728,-1.475 -0.763,-1.44 -0.812,-1.44 -0.848,-1.475 -0.848,-1.5 -0.848,-1.525 -0.812,-1.56 -0.763,-1.56 -0.727,-1.525 -0.727,-1.5
  region: 1.663,1.1 -0.137,1.1 -0.137,1.5 1.663,1.5
  region: 1.663,-1.5 -0.137,-1.5 -0.137,-1.1 1.663,-1.1
  region: 2,0.3 2.312,0.3 2.312,-0.3 2,-0.3
  region: 1.293,0 1.293,-0.101 1.216,-0.288 1.073,-0.431 0.886,-0.508 0.785,-0.508 0.727,-0.507 0.613,-0.478 0.509,-0.424 0.42,-0.347 0.385,-0.3 -0.45,-0.3 -0.45,0.3 0.385,0.3 0.42,0.347 0.509,0.424 0.613,0.478 0.727,0.507 0.785,0.508 0.886,0.508 1.073,0.431 1.216,0.288 1.293,0.101 1.293,0
  region: -0.437,0.3 -0.437,-0.3 -0.787,-0.3 -0.787,0.3
  lines w0.051: -0.537,-1.3 2.063,-1.3 2.063,1.3 -0.537,1.3 -0.537,-1.3

## J30J-9ZKN-J [mm]
pads (11):
  round 3 hole 2.3: 0(-7.15,3.8) 0(7.15,3.8)
  oval 0.9x1.2 hole 0.7: 1(-2.54,2.53) 2(-1.27,2.53) 3(0,2.53) 4(1.27,2.53) 5(2.54,2.53) 6(-1.905,5.07) 7(-0.635,5.07) 8(0.635,5.07) 9(1.905,5.07)
Top Overlay:
  lines w0.254: -9.8,0 0,0 9.8,0 9.8,7.6 9.6,7.6 -9.6,7.6 -9.8,7.6 -9.8,0
  text "6" at -4.272,4.545 h0.76
  text "9" at 3.862,4.717 h0.76
  text "5" at 3.862,2.177 h0.76
  text "1" at -4.093,2.149 h0.76

## J30J-21ZKN-J [mm]
pads (23):
  oval 0.9x1.6 hole 0.7: 1(-5.715,-2.54) 2(-4.445,-2.54) 3(-3.175,-2.54) 4(-1.905,-2.54) 5(-0.635,-2.54) 6(0.635,-2.54) 7(1.905,-2.54) 8(3.175,-2.54) 9(4.445,-2.54) 10(5.715,-2.54) 11(6.985,-2.54) 12(-5.08,0) 13(-3.81,0) 14(-2.54,0) 15(-1.27,0) 16(0,0) 17(1.27,0) 18(2.54,0) 19(3.81,0) 20(5.08,0) 21(6.35,0)
  round 3.2 hole 2.3: ""(-10.365,-1.27) ""(11.635,-1.27)
Top Overlay:
  lines w0.254: -13.065,-5.07 14.335,-5.07 14.335,-1.27 14.335,2.53 -10.365,2.53 -13.065,2.53 -13.065,-1.27 -13.065,-5.07
  text "11" at 8.382,-3.048 h1.02
  text "1" at -7.874,-3.048 h1.02
  text "12" at -7.874,-0.508 h1.02
  text "21" at 8.255,-0.508 h1.02